# Altium footprint library STM_mcu.PcbLib: 10 footprints
Each footprint in its own frame and in the unit in brackets; x right, y up, seen from the top. Pads: shape width x height; smd on the part's side, far side on the other; paste and mask are expansions set on the pad; w line width, h text height; cw(c..) or ccw(c..) is an arc to the next point about the centre after c.
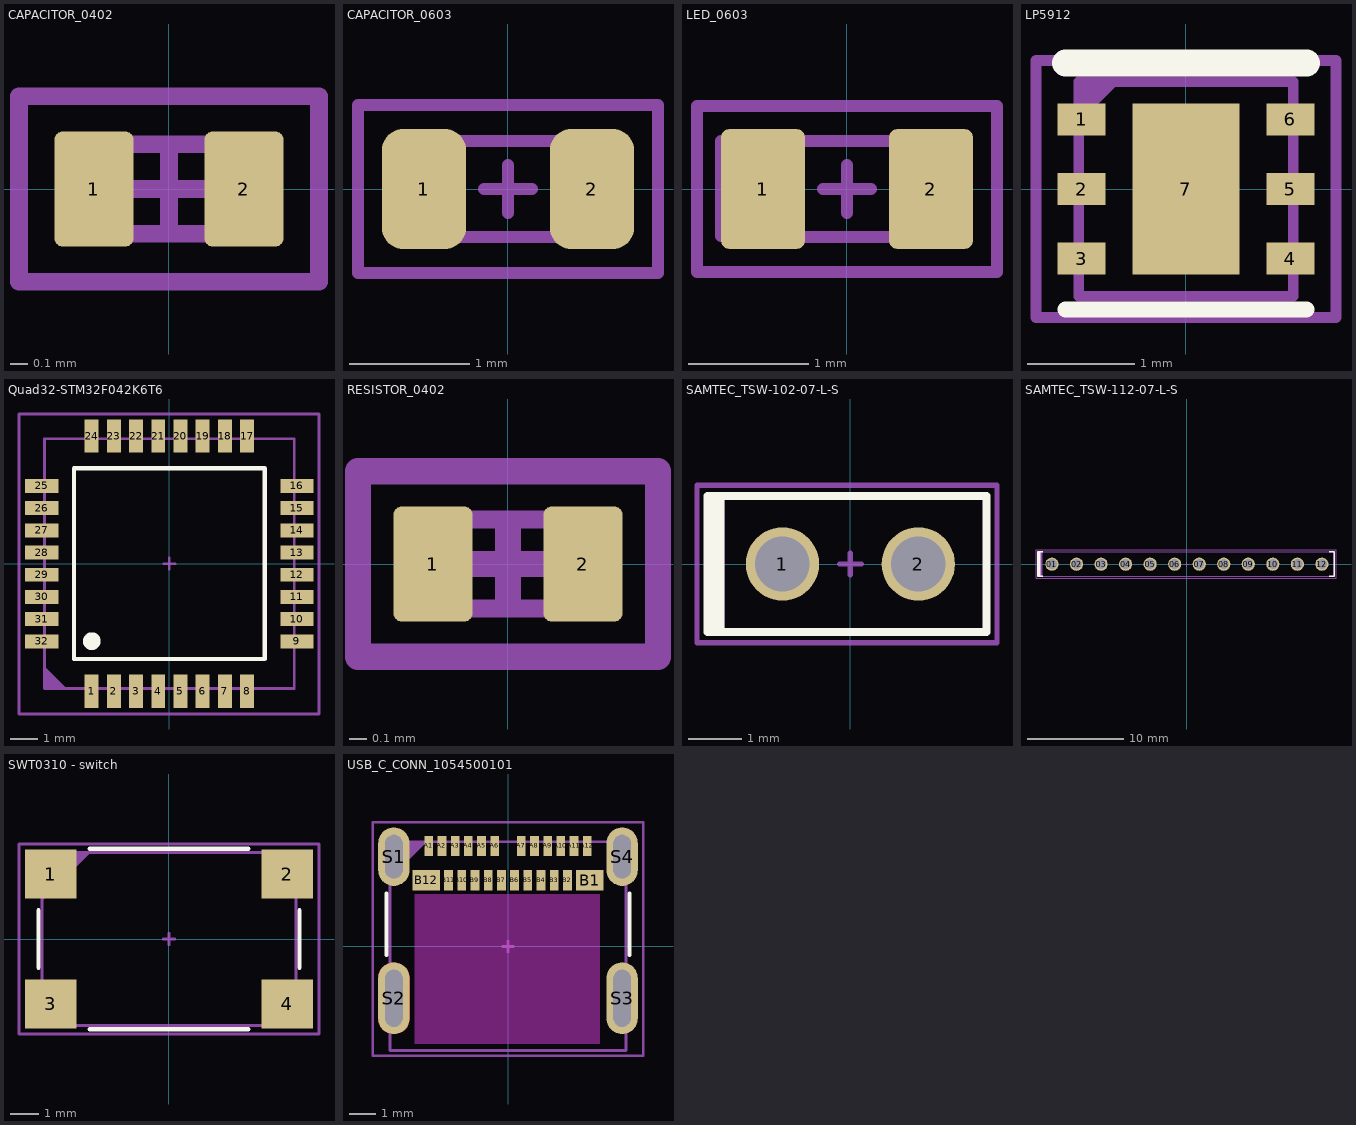
[diagram p0: the footprints below, top view; thin cyan lines are the x and y axes]

## CAPACITOR_0402 [mm]
pads (2):
  rrect20% 0.45x0.65 smd: 1(-0.425,0) 2(0.425,0)
Mechanical 13:
  lines w0.1: -0.508,-0.254 0.508,-0.254 0.508,0.254 -0.508,0.254 -0.508,-0.254
Mechanical 15:
  lines w0.1: -0.2,0 0.2,0 ; 0,-0.2 0,0.2 ; -0.85,-0.525 -0.85,0.525 0.85,0.525 0.85,-0.525 -0.85,-0.525
Top Assembly (Mech29):
  lines w0.1: -0.508,-0.254 -0.508,0.254 0.508,0.254 0.508,-0.254 -0.508,-0.254
  text ".Designator" at -0.886,-0.072 h0.4
3D body "Ceramic_Capacitor_0402_h20mil.step": height 0.52, standoff 0.01, extent -0.508,-0.254 0.508,0.254

## CAPACITOR_0603 [mm]
pads (2):
  rrect50% 0.7x1 smd: 1(-0.7,0) 2(0.7,0)
Mechanical 13:
  lines w0.1: -0.8,-0.4 0.8,-0.4 0.8,0.4 -0.8,0.4 -0.8,-0.4
Mechanical 15:
  lines w0.1: -0.2,0 0.2,0 ; 0,-0.2 0,0.2 ; -1.25,-0.7 1.25,-0.7 1.25,0.7 -1.25,0.7 -1.25,-0.7
Top Assembly (Mech29):
  lines w0.1: -0.8,-0.4 0.8,-0.4 ; -0.8,-0.4 -0.8,0.4 ; -0.8,-0.4 0.8,-0.4 ; -0.8,-0.4 -0.8,0.4 ; -0.8,0.4 0.8,0.4 ; -0.8,0.4 0.8,0.4 ; 0.8,-0.4 0.8,0.4 ; 0.8,-0.4 0.8,0.4
  text ".Designator" at -0.902,-0.091 h0.4
3D body "Ceramic_Capacitor_0603_h32mil.step": height 0.81, standoff 0.01, extent -0.8,-0.4 0.8,0.4

## LED_0603 [mm]
pads (2):
  rrect20% 0.7x1 smd: 1(-0.7,0) 2(0.7,0)
Mechanical 13:
  lines w0.1: -0.8,-0.4 0.8,-0.4 0.8,0.4 -0.8,0.4 -0.8,-0.4
Mechanical 15:
  lines w0.1: -0.2,0 0.2,0 ; 0,-0.2 0,0.2 ; -1.25,-0.694 -1.25,0.694 1.25,0.694 1.25,-0.694 -1.25,-0.694
Top Assembly (Mech29):
  lines w0.1: -1.05,-0.393 -1.05,0.4 ; -0.8,-0.4 -0.8,0.4 0.8,0.4 0.8,-0.4 -0.8,-0.4
  text ".Designator" at -0.886,-0.072 h0.4
3D body "LED_0603.step": height 0.6, standoff 0, extent -0.8,-0.4 0.8,0.4

## LP5912 [mm]
pads (7):
  rect 0.45x0.3 smd paste+0 mask+0: 1(-0.975,0.65) 2(-0.975,0) 3(-0.975,-0.65) 4(0.975,-0.65) 5(0.975,0) 6(0.975,0.65)
  rect 1x1.6 smd paste-0.787 mask+0: 7(0,0)
Top Overlay:
  lines w0.15: -1.126,-1.125 1.125,-1.125
  lines w0.25: -1.125,1.175 1.126,1.175
Top Paste:
  region: -0.5,-0.75 -0.5,-0.15 -0.45,-0.1 0.45,-0.1 0.5,-0.15 0.5,-0.75 0.45,-0.8 -0.45,-0.8
  region: -0.45,0.8 0.45,0.8 0.5,0.75 0.5,0.15 0.45,0.1 -0.45,0.1 -0.5,0.15 -0.5,0.75
Mechanical 13:
  lines w0.1: -1,-1 1,-1 1,1 -1,1 -1,-1
Mechanical 15:
  lines w0.1: -0.2,0 0.2,0 ; 0,-0.2 0,0.2 ; -1.4,-1.2 1.4,-1.2 1.4,1.2 -1.4,1.2 -1.4,-1.2
Top Assembly (Mech29):
  region: -1,1 -0.615,1 -1,0.616
  lines w0.1: -1,-1 1,-1 1,1 -1,1 -1,-1
  text ".Designator" at -0.902,-0.091 h0.4
3D body "DRV0006A.stp": height 0.8, standoff 0, extent -1,-1 1,1

## Quad32-STM32F042K6T6 [mm]
pads (32):
  rect 0.5x1.2 smd: 1(-2.8,-4.6) 2(-2,-4.6) 3(-1.2,-4.6) 4(-0.4,-4.6) 5(0.4,-4.6) 6(1.2,-4.6) 7(2,-4.6) 8(2.8,-4.6) 17(2.8,4.6) 18(2,4.6) 19(1.2,4.6) 20(0.4,4.6) 21(-0.4,4.6) 22(-1.2,4.6) 23(-2,4.6) 24(-2.8,4.6)
  rect 1.2x0.5 smd: 9(4.6,-2.8) 10(4.6,-2) 11(4.6,-1.2) 12(4.6,-0.4) 13(4.6,0.4) 14(4.6,1.2) 15(4.6,2) 16(4.6,2.8) 25(-4.6,2.8) 26(-4.6,2) 27(-4.6,1.2) 28(-4.6,0.4) 29(-4.6,-0.4) 30(-4.6,-1.2) 31(-4.6,-2) 32(-4.6,-2.8)
Top Overlay:
  circle w0.381: c-2.794,-2.794 r0.127
  lines w0.15: -3.44,3.429 -3.44,-3.44 3.44,-3.44 3.44,3.44 -3.44,3.44
Mechanical 13:
  lines w0.1: -4.5,-4.5 4.5,-4.5 4.5,4.5 -4.5,4.5 -4.5,-4.5
Mechanical 15:
  lines w0.1: -0.2,0 0.2,0 ; 0,-0.2 0,0.2 ; -5.42,-5.42 5.394,-5.42 5.394,5.394 -5.42,5.394 -5.42,-5.42
Top Assembly (Mech29):
  region: -4.501,-4.501 -4.5,-4.5 -4.5,-3.71 -3.712,-4.499
  lines w0.1: -4.5,-4.5 4.5,-4.5 4.5,4.5 -4.5,4.5 -4.5,-4.5
  text ".Designator" at -0.902,-0.091 h0.4
3D body "STM32F042K6T6.stp": height 1.6, standoff 0, extent -4.5,-4.5 4.5,4.5

## RESISTOR_0402 [mm]
pads (2):
  rrect20% 0.45x0.65 smd: 1(-0.425,0) 2(0.425,0)
Mechanical 13:
  lines w0.1: -0.5,-0.25 0.5,-0.25 0.5,0.25 -0.5,0.25 -0.5,-0.25
Mechanical 15:
  lines w0.15: -0.2,0 0.2,0 ; 0,-0.2 0,0.2 ; -0.85,-0.525 -0.85,0.525 0.85,0.525 0.85,-0.525 -0.85,-0.525
Top Assembly (Mech29):
  lines w0.1: -0.508,-0.254 -0.508,0.254 0.508,0.254 0.508,-0.254 -0.508,-0.254
  text ".Designator" at -0.886,-0.075 h0.4
3D body "R0402 AC0402.step": height 0.32, standoff 0, extent -0.5,-0.25 0.5,0.25

## SAMTEC_TSW-102-07-L-S [mm]
pads (2):
  round 1.37 hole 1.02: 1(-1.27,0) 2(1.27,0)
Top Overlay:
  rectangle: -2.667,-1.27 -2.354,1.27
  lines w0.15: -2.667,-1.27 2.54,-1.27 2.54,1.27 -2.667,1.27 -2.667,-1.27
Mechanical 13:
  lines w0.1: -2.667,-1.27 2.54,-1.27 2.54,1.27 -2.667,1.27 -2.667,-1.27
Mechanical 15:
  lines w0.1: -0.2,0 0.2,0 ; 0,-0.2 0,0.2 ; -2.867,-1.47 2.74,-1.47 2.74,1.47 -2.867,1.47 -2.867,-1.47
Top Assembly (Mech29):
  rectangle: -2.667,-1.27 -2.354,1.27
  lines w0.1: -2.667,-1.27 2.54,-1.27 2.54,1.27 -2.667,1.27 -2.667,-1.27
  text ".Designator" at -0.902,-0.091 h0.4
3D body "TSW-102-07-S-S.stp": height 8.38, standoff -2.54, extent -2.667,-1.27 2.54,1.27

## SAMTEC_TSW-112-07-L-S [mm]
pads (12):
  round 1.37 hole 1.02: 01(-13.97,0) 02(-11.43,0) 03(-8.89,0) 04(-6.35,0) 05(-3.81,0) 06(-1.27,0) 07(1.27,0) 08(3.81,0) 09(6.35,0) 10(8.89,0) 11(11.43,0) 12(13.97,0)
Top Overlay:
  rectangle: -15.42,-1.254 -15.179,1.284
  lines w0.15: -14.937,-1.254 -15.42,-1.254 -15.42,1.284 -14.931,1.284 ; 14.744,-1.252 15.233,-1.252 15.233,1.286 14.75,1.286
Mechanical 13:
  lines w0.1: -15.42,-1.254 15.23,-1.254 15.23,1.284 -15.42,1.284 -15.42,-1.254
Mechanical 15:
  lines w0.1: -0.2,0 0.2,0 ; 0,-0.2 0,0.2 ; -15.622,-1.452 15.428,-1.452 15.428,1.486 -15.622,1.486 -15.622,-1.452
Top Assembly (Mech29):
  rectangle: -15.422,-1.252 -14.931,1.286
  lines w0.1: -15.422,-1.252 15.228,-1.252 15.228,1.286 -15.422,1.286 -15.422,-1.252
  text ".Designator" at -0.902,-0.091 h0.4
3D body "TSW-112-07-L-S.stp": height 8.38, standoff -2.54, extent -15.377,-1.254 15.23,1.286

## SWT0310 - switch [mm]
pads (4):
  rect 1.8x1.7 smd: 1(-4.1,2.25) 2(4.1,2.25) 3(-4.1,-2.25) 4(4.1,-2.25)
Top Overlay:
  lines w0.15: -4.525,-1 -4.525,1 ; -2.75,-3.125 2.75,-3.125 ; -2.75,3.125 2.75,3.125 ; 4.525,-1 4.525,1
Mechanical 13:
  lines w0.1: -4.4,-3 4.4,-3 4.4,3 -4.4,3 -4.4,-3
Mechanical 15:
  lines w0.1: -0.2,0 0.2,0 ; 0,-0.2 0,0.2 ; -5.2,-3.3 5.2,-3.3 5.2,3.3 -5.2,3.3 -5.2,-3.3
Top Assembly (Mech29):
  region: -4.4,3 -4.4,1.334 -2.736,2.998 -2.736,3
  lines w0.1: -4.4,-3 4.4,-3 4.4,3 -4.4,3 -4.4,-3
  text ".Designator" at -0.902,-0.091 h0.4
3D body "SWT0310-043016GSA.stp": height 4.3, standoff -0.05, extent -4.4,-3 4.4,3

## USB_C_CONN_1054500101 [mil]
pads (28):
  rect 13x30 smd paste+0 mask+0: A1(-118.11,149.96) A2(-98.43,149.96) A3(-78.74,149.96) A4(-59.06,149.96) A5(-39.37,149.96) A6(-19.68,149.96) A7(19.68,149.96) A8(39.37,149.96) A9(59.06,149.96) A10(78.74,149.96) A11(98.43,149.96) A12(118.11,149.96) B2(88.58,98.78) B3(68.9,98.78) B4(49.21,98.78) B5(29.53,98.78) B6(9.84,98.78) B7(-9.84,98.78) B8(-29.53,98.78) B9(-49.21,98.78) B10(-68.9,98.78) B11(-88.58,98.78)
  rect 41x30 smd paste+0 mask+0: B1(122.05,98.78) B12(-122.05,98.78)
  oval 47x87 hole 26 slot 65 at 90 deg paste-99999 mask-43.5: S1(-170.08,133.81) S4(170.08,133.81)
  oval 47x107 hole 26 slot 85 at 90 deg paste-99999 mask-53.5: S2(-170.08,-77.21) S3(170.08,-77.21)
Top Layer:
  region: -193.13,-42.62 -193.58,-47.21 -193.58,-107.21 -193.13,-111.79 -191.79,-116.2 -189.62,-120.26 -186.7,-123.83 -183.13,-126.75 -179.07,-128.92 -174.66,-130.26 -170.08,-130.71 -165.49,-130.26 -161.09,-128.92 -157.02,-126.75 -153.46,-123.83 -150.54,-120.26 -148.37,-116.2 -147.03,-111.79 -146.58,-107.21 -146.58,-47.21 -147.03,-42.62 -148.37,-38.22 -150.54,-34.15 -153.46,-30.59 -157.02,-27.67 -161.09,-25.5 -165.49,-24.16 -170.08,-23.71 -174.66,-24.16 -179.07,-25.5 -183.13,-27.67 -186.7,-30.59 -189.62,-34.15 -191.79,-38.22
Top Layer keep-out:
  region: -139.22,-145.29 -139.22,78.04 136.78,78.04 136.78,-145.29
Top Overlay:
  lines w6: -181,-12.78 -181,78.88 ; 181,-12.78 181,78.88
Mechanical 13:
  lines w3.94: -175.98,-155.04 175.98,-155.04 175.98,155.98 -175.98,155.98 -175.98,-155.04
Mechanical 15:
  lines w3.94: -7.87,0 7.87,0 ; 0,-7.87 0,7.87 ; -201.45,-162.87 201.45,-162.87 201.45,185.19 -201.45,185.19 -201.45,-162.87
Top Assembly (Mech29):
  region: -175.98,155.98 -175.98,101.18 -121.04,155.98
  lines w3.94: -175.98,-155.04 175.98,-155.04 175.98,155.98 -175.98,155.98 -175.98,-155.04
  text ".Designator" at -35.51,-3.57 h15.75
3D body "1054500101.stp": height 126.88, standoff -29.03, extent -175.98,-155.04 175.98,155.98
3D body "1054500101.stp": height 126.88, standoff -29.03, extent -175.98,-155.04 175.98,155.98